# Altium footprint library Passive components.PcbLib: 18 footprints (part 2 of 2)
Each footprint in its own frame and in the unit in brackets; x right, y up, seen from the top. Pads: shape width x height; smd on the part's side, far side on the other; paste and mask are expansions set on the pad; w line width, h text height; cw(c..) or ccw(c..) is an arc to the next point about the centre after c.
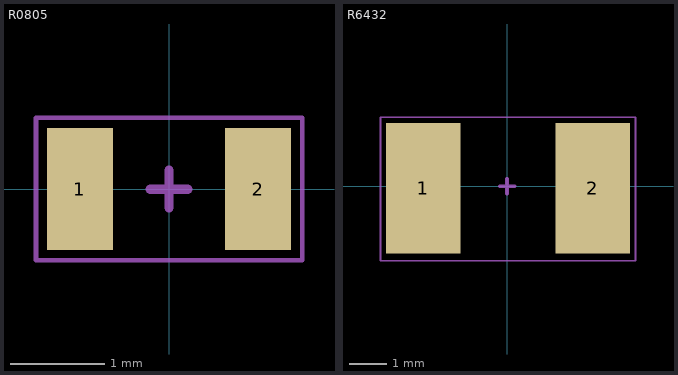
[diagram p1: the footprints below, top view; thin cyan lines are the x and y axes]

## R0805 [mm]
pads (2):
  rect 0.7x1.3 smd: 1(-0.95,0) 2(0.95,0)
Courtyard Top:
  lines w0.05: -1.418,-0.757 1.42,-0.757 1.42,0.76 -1.418,0.76 -1.418,-0.757
  lines w0.1: -0.2,0 0.2,0 ; 0,-0.2 0,0.2
3D body "User Library-R_0805.STEP": height 0.5, standoff 0, extent -1,-0.625 1,0.625

## R6432 [mm] "3W resistor SMD"
height 1.1
pads (2):
  rect 2x3.5 smd: 1(-2.25,-0.05) 2(2.3,-0.05)
Courtyard Top:
  lines w0.05: -3.4,-2 -3.4,1.85 3.45,1.85 3.45,-2 -3.4,-2
  lines w0.1: -0.2,0 0.2,0 ; 0,-0.2 0,0.2